# Altium footprint library opto-honeywell.PCBLIB: 39 footprints (part 2 of 3)
Each footprint in its own frame and in the unit in brackets; x right, y up, seen from the top. Pads: shape width x height; smd on the part's side, far side on the other; paste and mask are expansions set on the pad; w line width, h text height; cw(c..) or ccw(c..) is an arc to the next point about the centre after c.
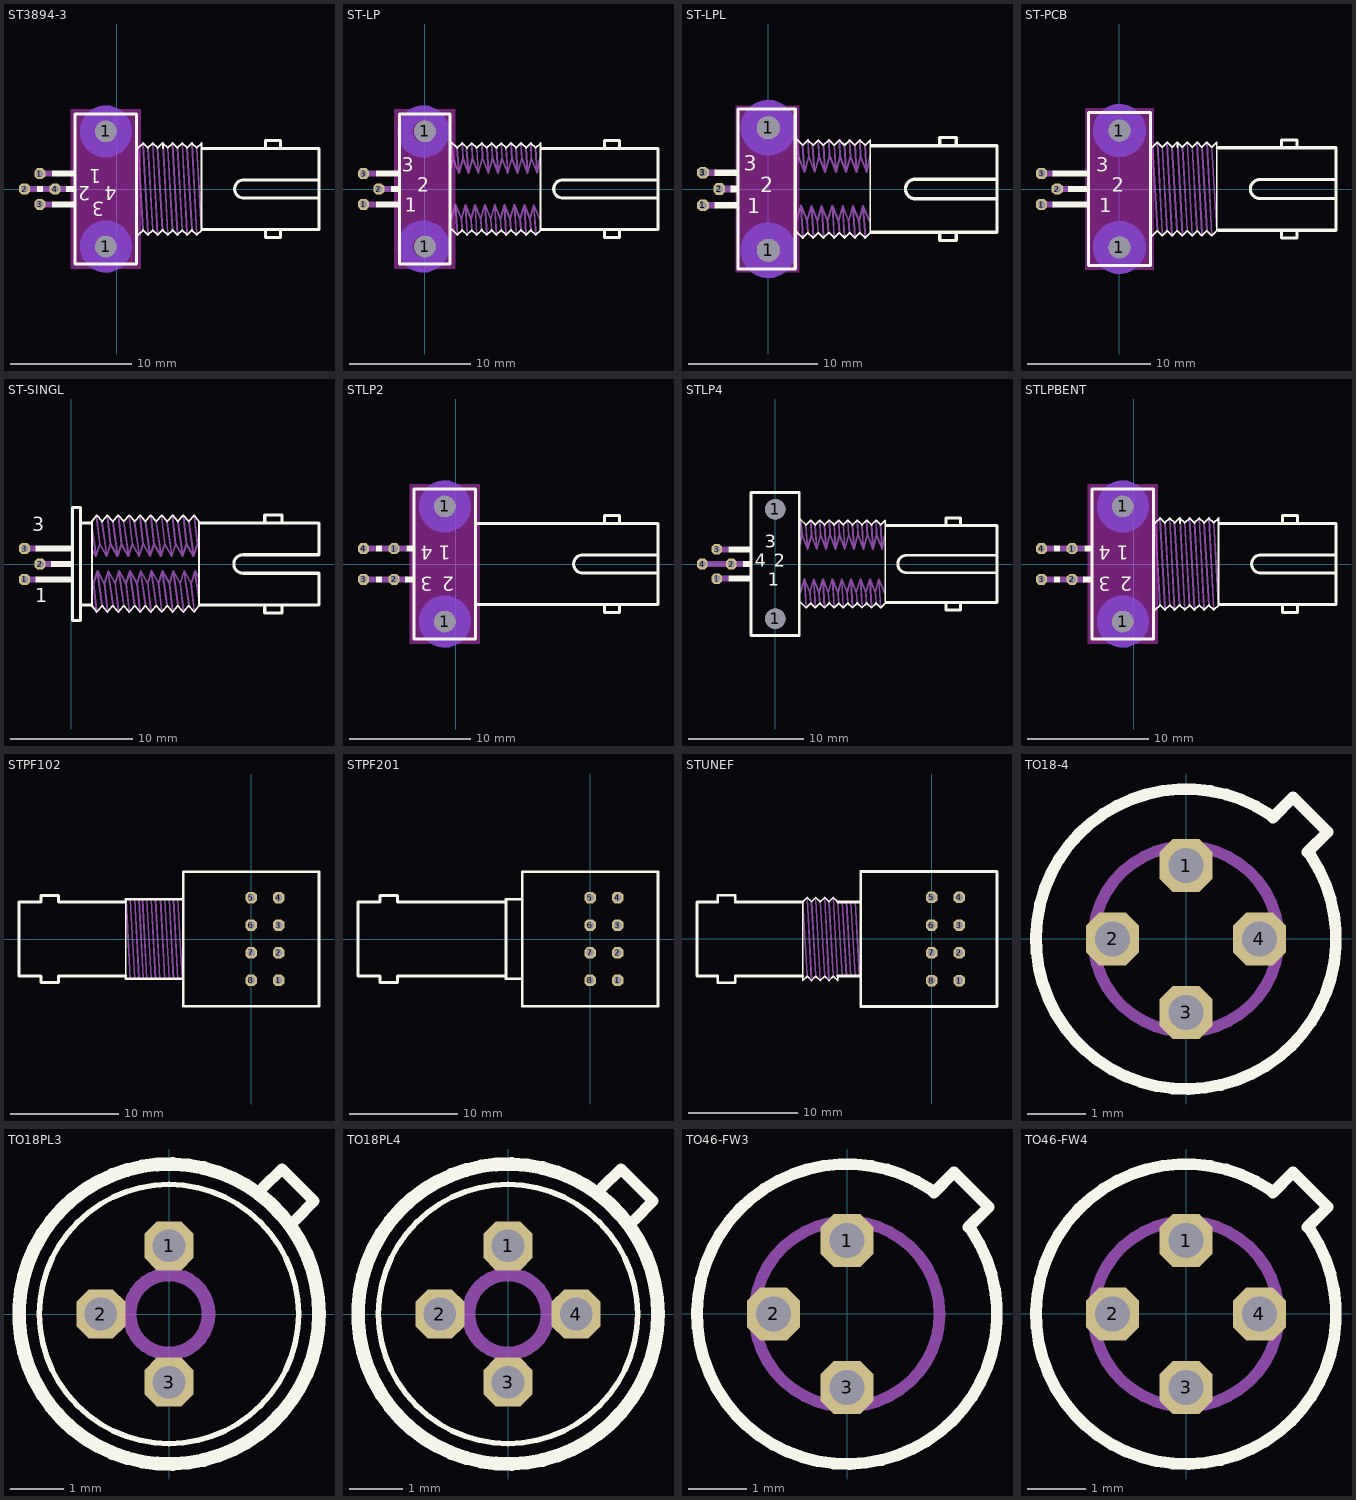
[diagram p1: the footprints below, top view; thin cyan lines are the x and y axes]

## ST3894-3 [mil]
pads (6):
  oct 36x36 hole 24: 1(-250,50) 2(-300,0) 3(-250,-50) 4(-200,0)
  round 70 hole 70: 1(-35,-187.5) 1(-35,187.5)
Top Layer keep-out:
  rectangle: -150,-260 80,260
Bottom Layer keep-out:
  circle w50: c-35,187.5 r60
  circle w50: c-35,-187.5 r60
Top Overlay:
  rectangle: -165,-10 -135,10
  rectangle: -260,-10 -240,10
  rectangle: -210,-60 -135,-40
  rectangle: -210,40 -135,60
  lines w6: 70.83,-149.61 86.57,-133.86 102.32,-149.61 118.07,-133.86 133.82,-149.61 149.57,-133.86 ; 70.83,133.86 86.57,149.61 102.32,133.86 118.07,149.61 133.82,133.86 149.57,149.61 ; 151.06,-133.86 166.85,-149.61 182.6,-133.86 198.35,-149.61 214.06,-133.86 229.8,-149.61 245.59,-133.86 261.34,-149.61 277.09,-133.86 ; 151.06,133.86 151.06,149.61 166.85,133.86 182.6,149.61 198.35,133.86 214.06,149.61 229.8,133.86 245.59,149.61 261.34,133.86 277.09,149.61 277.09,-131.14
  lines w10: 282.5,-132.5 660,-132.5 660,-30 ; 282.5,132.5 660,132.5 660,30 ; 485,-135 485,-157.5 535,-157.5 535,-135 ; 485,135 485,157.5 535,157.5 535,135 ; 660,-30 660,30 ; 660,-30 415,-30 cw(c415,0) 415,30 660,30 ; -135,-245 -135,245 65,245 65,-245 -135,-245
  text "1" at -50,80 h77.5
  text "3" at -40,-25 h77.5
  text "2" at -85,25 h77.5
  text "4" at 0,25 h77.5
Mechanical 16:
  rectangle: -255,40 -210,60
  rectangle: -305,-10 -260,10
  rectangle: -205,-10 -160,10
  rectangle: -240,-10 -195,10
  rectangle: -255,-60 -210,-40
  lines w6: 70.83,133.86 86.57,-133.86 ; 86.57,149.61 102.32,-144.21 ; 102.32,133.86 118.07,-133.86 ; 118.07,149.61 133.82,-149.61 ; 133.82,133.86 149.57,-133.86 ; 151.06,149.61 166.85,-149.61 ; 166.85,133.86 182.6,-133.86 ; 182.6,149.61 198.35,-149.61 ; 198.35,133.86 214.06,-133.86 ; 214.06,149.61 229.8,-144.21 ; 229.8,133.86 245.59,-133.86 ; 245.59,149.61 261.34,-149.61 ; 261.34,133.86 277.09,-133.86
Via Holes:
  rectangle: -150,-260 80,260

## ST-LP [mil]
pads (5):
  oct 36x36 hole 24: 1(-200,-50) 2(-150,0) 3(-200,50)
  round 70 hole 70: 1(0,-187.5) 1(0,187.5)
Top Layer keep-out:
  rectangle: -100,-260 100,260
Bottom Layer keep-out:
  circle w50: c-5,-187.5 r60
  circle w50: c-5,187.5 r60
Top Overlay:
  rectangle: -160,40 -85,60
  rectangle: -110,-10 -85,10
  rectangle: -160,-60 -85,-40
  lines w6: 86.57,152.6 105.32,133.86 ; 87.56,-131.85 105.32,-149.61 ; 105.83,-149.61 121.57,-133.86 137.32,-149.61 153.07,-133.86 168.82,-149.61 184.57,-133.86 ; 105.83,133.86 121.57,149.61 137.32,133.86 153.07,149.61 168.82,133.86 185.59,149.61 ; 186.06,-133.86 201.85,-149.61 217.6,-133.86 233.35,-149.61 249.06,-133.86 264.8,-149.61 280.59,-133.86 ; 186.06,149.61 201.85,133.86 217.6,149.61 233.35,133.86 249.06,149.61 264.8,133.86 280.59,149.61 ; 281.57,-133.86 297.32,-149.61 313.07,-133.86 ; 281.57,149.61 297.32,133.86 313.07,149.61 ; 314.06,-133.86 329.8,-149.61 345.59,-133.86 361.34,-149.61 377.09,-133.86 ; 314.06,149.61 329.8,133.86 345.59,149.61 361.34,133.86 377.09,149.61 377.09,-131.14
  lines w10: 380,-132.5 760,-132.5 760,-30 ; 380,132.5 760,132.5 760,30 ; 585,-135 585,-157.5 635,-157.5 635,-135 ; 585,135 585,157.5 635,157.5 635,135 ; 760,-30 760,30 ; 760,-30 450,-30 cw(c450,0) 450,30 760,30 ; -82.5,-245 -82.5,245 82.5,245 82.5,-245 -82.5,-245
  text "1" at -65,-90 h77.5
  text "3" at -75,40 h77.5
  text "2" at -25,-25 h77.5
Mechanical 16:
  rectangle: -205,40 -160,60
  rectangle: -155,-10 -110,10
  rectangle: -205,-60 -160,-40
  lines w6: 85,70 92,100 86.57,152.6 ; 86.85,-96.65 100.08,-50.91 118.31,-96.65 ; 92.09,100.12 110.32,52.36 ; 100,-54 106,-149 ; 105,134 111,54 ; 110.83,51.38 124.06,99.09 142.32,51.38 155.59,99.09 173.82,51.38 187.09,99.09 ; 118.82,-97.64 132.09,-51.89 150.32,-97.64 163.58,-51.89 181.81,-97.64 195.08,-51.89 ; 119,-96 122,-134 ; 122,149 124,98 ; 132,-56 138,-148 ; 136,133 142,53 ; 150,-95 153,-134 ; 153,148 155,97 ; 164,-55 169,-149 ; 169,134 174,53 ; 182,-95 185,-134 ; 186,149 188,97 ; 188.58,99.09 206.85,51.38 220.08,99.09 238.35,51.38 251.57,99.09 269.8,51.38 283.07,99.09 ; 196,-54 202,-148 ; 196.57,-51.89 214.84,-97.64 228.07,-51.89 246.34,-97.64 259.57,-51.89 277.83,-97.64 291.06,-51.89 ; 202,134 207,53 ; 215,-96 218,-134 ; 218,148 220,96 ; 228,-55 233,-149 ; 233,134 238,55 ; 246,-94 249,-134 ; 249,149 252,97 ; 260,-57 265,-148 ; 265,134 270,54 ; 278,-95 281,-134 ; 281,149 284,97 ; 284.06,99.09 302.32,51.38 315.59,99.09 ; 292,-54 298,-148 ; 292.09,-51.89 310.32,-97.64 324.57,-51.89 342.83,-97.64 355.08,-51.89 374.33,-97.64 ; 297,134 302,55 ; 310,-94 313,-134 ; 313,149 316,97 ; 316.57,99.09 334.8,51.38 347.09,99.09 366.34,51.38 375.59,99.09 ; 325,-56 330,-148 ; 330,134 335,54 ; 343,-95 346,-134 ; 346,148 347,96 ; 355,-54 362,-149 ; 361,134 366,54
Via Holes:
  rectangle: -100,-260 100,260

## ST-LPL [mil]
pads (5):
  oct 36x36 hole 24: 1(-200,-50) 2(-150,0) 3(-200,50)
  round 70 hole 70: 1(0,-187.5) 1(0,187.5)
Top Layer keep-out:
  rectangle: -100,-255 95,255
Bottom Layer keep-out:
  circle w50: c0,-187.5 r60
  circle w50: c0,187.5 r60
Top Overlay:
  rectangle: -165,40 -90,60
  rectangle: -115,-10 -90,10
  rectangle: -165,-60 -90,-40
  lines w6: 86.57,152.6 105.32,133.86 ; 87.56,-131.85 105.32,-149.61 ; 105.83,-149.61 121.57,-133.86 137.32,-149.61 153.07,-133.86 168.82,-149.61 184.57,-133.86 ; 105.83,133.86 121.57,149.61 137.32,133.86 153.07,149.61 168.82,133.86 185.59,149.61 ; 186.06,-133.86 201.85,-149.61 217.6,-133.86 233.35,-149.61 249.06,-133.86 264.8,-149.61 280.59,-133.86 296.34,-149.61 312.09,-133.86 ; 186.06,149.61 201.85,133.86 217.6,149.61 233.35,133.86 249.06,149.61 264.8,133.86 280.59,149.61 296.34,133.86 312.09,149.61 312.09,-131.14
  lines w10: 315,-132.5 700,-132.5 700,-30 ; 315,132.5 700,132.5 700,30 ; 525,-135 525,-157.5 575,-157.5 575,-135 ; 525,135 525,157.5 575,157.5 575,135 ; 700,-30 700,30 ; 700,-30 450,-30 cw(c450,0) 450,30 700,30 ; -92.5,-245 -92.5,245 82.5,245 82.5,-245 -92.5,-245
  text "1" at -65,-90 h77.5
  text "3" at -75,40 h77.5
  text "2" at -25,-25 h77.5
Mechanical 16:
  rectangle: -205,40 -160,60
  rectangle: -155,-10 -110,10
  rectangle: -205,-60 -160,-40
  lines w6: 85,70 92,100 86.57,152.6 ; 86.85,-96.65 100.08,-50.91 118.31,-96.65 ; 92.09,100.12 110.32,52.36 ; 100,-54 106,-149 ; 105,134 111,54 ; 110.83,51.38 124.06,99.09 142.32,51.38 155.59,99.09 173.82,51.38 187.09,99.09 ; 118.82,-97.64 132.09,-51.89 150.32,-97.64 163.58,-51.89 181.81,-97.64 195.08,-51.89 ; 119,-96 122,-134 ; 122,149 124,98 ; 132,-56 138,-148 ; 136,133 142,53 ; 150,-95 153,-134 ; 153,148 155,97 ; 164,-55 169,-149 ; 169,134 174,53 ; 182,-95 185,-134 ; 186,149 188,97 ; 188.58,99.09 206.85,51.38 220.08,99.09 238.35,51.38 251.57,99.09 269.8,51.38 282.09,99.09 301.34,51.38 310.59,99.09 ; 196,-54 202,-148 ; 196.57,-51.89 214.84,-97.64 228.07,-51.89 246.34,-97.64 259.57,-51.89 277.83,-97.64 290.08,-51.89 309.33,-97.64 ; 202,134 207,53 ; 215,-96 218,-134 ; 218,148 220,96 ; 228,-55 233,-149 ; 233,134 238,55 ; 246,-94 249,-134 ; 249,149 252,97 ; 260,-56 265,-148 ; 265,134 270,54 ; 278,-95 281,-134 ; 281,148 282,96 ; 290,-54 297,-149 ; 296,134 301,54
Via Holes:
  rectangle: -100,-255 95,255

## ST-PCB [mil]
pads (5):
  oct 36x36 hole 24: 1(-250,-50) 2(-200,0) 3(-250,50)
  round 70 hole 70: 1(0,-187.5) 1(0,187.5)
Top Layer keep-out:
  rectangle: -110,-260 110,260
Bottom Layer keep-out:
  circle w50: c0,187.5 r60
  circle w50: c0,-187.5 r60
Top Overlay:
  rectangle: -165,-10 -100,10
  rectangle: -215,-60 -100,-40
  rectangle: -215,40 -100,60
  lines w6: 105.83,-149.61 121.57,-133.86 137.32,-149.61 153.07,-133.86 168.82,-149.61 184.57,-133.86 ; 105.83,133.86 121.57,149.61 137.32,133.86 153.07,149.61 168.82,133.86 184.57,149.61 ; 186.06,-133.86 201.85,-149.61 217.6,-133.86 233.35,-149.61 249.06,-133.86 264.8,-149.61 280.59,-133.86 296.34,-149.61 312.09,-133.86 ; 186.06,133.86 186.06,149.61 201.85,133.86 217.6,149.61 233.35,133.86 249.06,149.61 264.8,133.86 280.59,149.61 296.34,133.86 312.09,149.61 312.09,-131.14
  lines w10: 317.5,-132.5 695,-132.5 695,-30 ; 317.5,132.5 695,132.5 695,30 ; 520,-135 520,-157.5 570,-157.5 570,-135 ; 520,135 520,157.5 570,157.5 570,135 ; 695,-30 695,30 ; 695,-30 450,-30 cw(c450,0) 450,30 695,30 ; -100,-245 -100,245 100,245 100,-245 -100,-245
  text "1" at -65,-90 h77.5
  text "3" at -75,40 h77.5
  text "2" at -25,-25 h77.5
Mechanical 16:
  rectangle: -255,40 -210,60
  rectangle: -205,-10 -160,10
  rectangle: -255,-60 -210,-40
  lines w6: 105.83,133.86 121.57,-133.86 ; 121.57,149.61 137.32,-144.21 ; 137.32,133.86 153.07,-133.86 ; 153.07,149.61 168.82,-149.61 ; 168.82,133.86 184.57,-133.86 ; 186.06,149.61 201.85,-149.61 ; 201.85,133.86 217.6,-133.86 ; 217.6,149.61 233.35,-149.61 ; 233.35,133.86 249.06,-133.86 ; 249.06,149.61 264.8,-144.21 ; 264.8,133.86 280.59,-133.86 ; 280.59,149.61 296.34,-149.61 ; 296.34,133.86 312.09,-133.86
Via Holes:
  rectangle: -110,-260 110,260

## ST-SINGL [mil]
pads (3):
  oct 36x36 hole 24: 1(-150,-50) 2(-100,0) 3(-150,50)
Top Overlay:
  rectangle: -65,-10 0,10
  rectangle: -115,-60 0,-40
  rectangle: -115,40 0,60
  lines w6: 67.5,-137.5 67.5,-135 ; 67.5,135 67.5,-135 ; 67.5,137.5 82.5,157.5 100,137.5 117.5,157.5 135,137.5 152.5,157.5 170,137.5 187.5,157.5 205,137.5 222.5,157.5 240,137.5 257.5,157.5 275,137.5 292.5,157.5 310,137.5 327.5,157.5 345,137.5 362.5,157.5 380,137.5 397.5,157.5 412.5,137.5 412.5,-135 397.5,-155 380,-135 362.5,-155 345,-135 327.5,-155 310,-135 292.5,-155 275,-135 257.5,-155 240,-135 222.5,-155 205,-135 187.5,-155 170,-135 152.5,-155 135,-135 117.5,-155 100,-135 82.5,-155 67.5,-135
  lines w10: 35,-132.5 62.5,-132.5 ; 35,132.5 62.5,132.5 ; 417.5,-132.5 800,-132.5 800,-30 555,-30 cw(c555,0) 555,30 800,30 800,132.5 417.5,132.5 ; 625,-140 625,-157.5 680,-157.5 680,-137.5 ; 625,135 625,157.5 680,157.5 680,137.5 ; 5,-182.5 5,182.5 30,182.5 30,-182.5 5,-182.5
  text "1" at -115,-140 h77.5
  text "3" at -125,90 h77.5
Mechanical 16:
  rectangle: -155,40 -110,60
  rectangle: -105,-10 -60,10
  rectangle: -155,-60 -110,-40
  lines w6: 67.5,115 80,30 ; 70,42.5 80,25 92.5,65 ; 82.5,-150 72.5,-62.5 85,-22.5 107.5,-62.5 ; 82.5,152.5 92.5,65 ; 85,-27.5 100,-132.5 ; 100,135 115,30 ; 117.5,-150 107.5,-62.5 ; 117.5,152.5 127.5,65 ; 120,-27.5 135,-132.5 ; 135,135 150,30 ; 152.5,-150 142.5,-62.5 ; 152.5,152.5 162.5,65 ; 155,-27.5 170,-132.5 ; 170,135 185,30 ; 187.5,-150 177.5,-62.5 ; 187.5,152.5 197.5,65 ; 190,-27.5 205,-132.5 ; 205,135 220,30 ; 222.5,-150 212.5,-62.5 ; 222.5,152.5 232.5,65 ; 225,-27.5 240,-132.5 ; 240,135 255,30 ; 257.5,-150 247.5,-62.5 ; 257.5,152.5 267.5,65 ; 260,-27.5 275,-132.5 ; 275,135 290,30 ; 292.5,-150 282.5,-62.5 ; 292.5,152.5 302.5,65 ; 295,-27.5 310,-132.5 ; 310,135 325,30 ; 327.5,-150 317.5,-62.5 ; 327.5,152.5 337.5,65 ; 330,-27.5 345,-132.5 ; 345,135 360,30 ; 362.5,-150 352.5,-62.5 ; 362.5,152.5 372.5,65 ; 365,-27.5 380,-132.5 ; 380,135 395,30 ; 397.5,-150 387.5,-62.5 ; 397.5,152.5 407.5,65 ; 400,-27.5 412.5,-112.5 ; 410,-40 400,-22.5 387.5,-62.5 ; 412.5,55 407.5,65 ; 92.5,65 115,25 127.5,65 ; 107.5,-62.5 120,-22.5 142.5,-62.5 ; 127.5,65 150,25 162.5,65 ; 142.5,-62.5 155,-22.5 177.5,-62.5 ; 162.5,65 185,25 197.5,65 ; 177.5,-62.5 190,-22.5 212.5,-62.5 ; 197.5,65 220,25 232.5,65 ; 212.5,-62.5 225,-22.5 247.5,-62.5 ; 232.5,65 255,25 267.5,65 ; 247.5,-62.5 260,-22.5 282.5,-62.5 ; 267.5,65 290,25 302.5,65 ; 282.5,-62.5 295,-22.5 317.5,-62.5 ; 302.5,65 325,25 337.5,65 ; 317.5,-62.5 330,-22.5 352.5,-62.5 ; 337.5,65 360,25 372.5,65 ; 352.5,-62.5 365,-22.5 387.5,-62.5 ; 372.5,65 395,25 407.5,65

## STLP2 [mil]
pads (6):
  oct 36x36 hole 24: 1(-200,50) 2(-200,-50) 3(-300,-50) 4(-300,50)
  round 70 hole 70: 1(-35,-187.5) 1(-35,187.5)
Top Layer keep-out:
  rectangle: -150,-260 80,260
Bottom Layer keep-out:
  circle w50: c-35,187.5 r60
  circle w50: c-35,-187.5 r60
Top Overlay:
  rectangle: -165,-60 -135,-40
  rectangle: -160,40 -135,60
  rectangle: -260,-60 -240,-40
  rectangle: -260,40 -240,60
  lines w10: 67.5,-132.5 660,-132.5 660,-30 ; 67.5,132.5 660,132.5 660,30 ; 485,-135 485,-157.5 535,-157.5 535,-135 ; 485,135 485,157.5 535,157.5 535,135 ; 660,-30 660,30 ; 660,-30 415,-30 cw(c415,0) 415,30 660,30 ; -135,-245 -135,245 65,245 65,-245 -135,-245
  text "1" at -15,75 h77.5
  text "3" at -75,-25 h77.5
  text "2" at -5,-25 h77.5
  text "4" at -75,75 h77.5
Mechanical 16:
  rectangle: -205,-60 -160,-40
  rectangle: -305,-60 -260,-40
  rectangle: -205,40 -160,60
  rectangle: -240,-60 -195,-40
  rectangle: -240,40 -195,60
  rectangle: -305,40 -260,60
Via Holes:
  rectangle: -150,-260 80,260

## STLP4 [mil]
pads (6):
  oct 36x36 hole 24: 1(-200,-50) 2(-150,0) 3(-200,50) 4(-250,0)
  round 70 hole 70: 1(0,-187.5) 1(0,187.5)
Top Overlay:
  rectangle: -160,40 -85,60
  rectangle: -110,-10 -85,10
  rectangle: -160,-60 -85,-40
  lines w6: 86.57,152.6 105.32,133.86 ; 87.56,-131.85 105.32,-149.61 ; 105.83,-149.61 121.57,-133.86 137.32,-149.61 153.07,-133.86 168.82,-149.61 184.57,-133.86 ; 105.83,133.86 121.57,149.61 137.32,133.86 153.07,149.61 168.82,133.86 185.59,149.61 ; 186.06,-133.86 201.85,-149.61 217.6,-133.86 233.35,-149.61 249.06,-133.86 264.8,-149.61 280.59,-133.86 ; 186.06,149.61 201.85,133.86 217.6,149.61 233.35,133.86 249.06,149.61 264.8,133.86 280.59,149.61 ; 281.57,-133.86 297.32,-149.61 313.07,-133.86 ; 281.57,149.61 297.32,133.86 313.07,149.61 ; 314.06,-133.86 329.8,-149.61 345.59,-133.86 361.34,-149.61 377.09,-133.86 ; 314.06,149.61 329.8,133.86 345.59,149.61 361.34,133.86 377.09,149.61 377.09,-131.14
  lines w10: 380,-132.5 760,-132.5 760,-30 ; 380,132.5 760,132.5 760,30 ; 585,-135 585,-157.5 635,-157.5 635,-135 ; 585,135 585,157.5 635,157.5 635,135 ; 760,-30 760,30 ; 760,-30 450,-30 cw(c450,0) 450,30 760,30 ; -82.5,-245 -82.5,245 82.5,245 82.5,-245 -82.5,-245
  text "1" at -25,-90 h77.5
  text "3" at -35,40 h77.5
  text "2" at -5,-25 h77.5
  text "4" at -70,-25 h77.5
Mechanical 16:
  rectangle: -205,40 -160,60
  rectangle: -155,-10 -110,10
  rectangle: -205,-60 -160,-40
  rectangle: -255,-10 -150,10
  lines w6: 85,70 92,100 86.57,152.6 ; 86.85,-96.65 100.08,-50.91 118.31,-96.65 ; 92.09,100.12 110.32,52.36 ; 100,-54 106,-149 ; 105,134 111,54 ; 110.83,51.38 124.06,99.09 142.32,51.38 155.59,99.09 173.82,51.38 187.09,99.09 ; 118.82,-97.64 132.09,-51.89 150.32,-97.64 163.58,-51.89 181.81,-97.64 195.08,-51.89 ; 119,-96 122,-134 ; 122,149 124,98 ; 132,-56 138,-148 ; 136,133 142,53 ; 150,-95 153,-134 ; 153,148 155,97 ; 164,-55 169,-149 ; 169,134 174,53 ; 182,-95 185,-134 ; 186,149 188,97 ; 188.58,99.09 206.85,51.38 220.08,99.09 238.35,51.38 251.57,99.09 269.8,51.38 283.07,99.09 ; 196,-54 202,-148 ; 196.57,-51.89 214.84,-97.64 228.07,-51.89 246.34,-97.64 259.57,-51.89 277.83,-97.64 291.06,-51.89 ; 202,134 207,53 ; 215,-96 218,-134 ; 218,148 220,96 ; 228,-55 233,-149 ; 233,134 238,55 ; 246,-94 249,-134 ; 249,149 252,97 ; 260,-57 265,-148 ; 265,134 270,54 ; 278,-95 281,-134 ; 281,149 284,97 ; 284.06,99.09 302.32,51.38 315.59,99.09 ; 292,-54 298,-148 ; 292.09,-51.89 310.32,-97.64 324.57,-51.89 342.83,-97.64 355.08,-51.89 374.33,-97.64 ; 297,134 302,55 ; 310,-94 313,-134 ; 313,149 316,97 ; 316.57,99.09 334.8,51.38 347.09,99.09 366.34,51.38 375.59,99.09 ; 325,-56 330,-148 ; 330,134 335,54 ; 343,-95 346,-134 ; 346,148 347,96 ; 355,-54 362,-149 ; 361,134 366,54

## STLPBENT [mil]
pads (6):
  oct 36x36 hole 24: 1(-200,50) 2(-200,-50) 3(-300,-50) 4(-300,50)
  round 70 hole 70: 1(-35,-187.5) 1(-35,187.5)
Top Layer keep-out:
  rectangle: -150,-260 80,260
Bottom Layer keep-out:
  circle w50: c-35,187.5 r60
  circle w50: c-35,-187.5 r60
Top Overlay:
  rectangle: -165,-60 -135,-40
  rectangle: -160,40 -135,60
  rectangle: -260,-60 -240,-40
  rectangle: -260,40 -240,60
  lines w6: 70.83,-149.61 86.57,-133.86 102.32,-149.61 118.07,-133.86 133.82,-149.61 149.57,-133.86 ; 70.83,133.86 86.57,149.61 102.32,133.86 118.07,149.61 133.82,133.86 149.57,149.61 ; 151.06,-133.86 166.85,-149.61 182.6,-133.86 198.35,-149.61 214.06,-133.86 229.8,-149.61 245.59,-133.86 261.34,-149.61 277.09,-133.86 ; 151.06,133.86 151.06,149.61 166.85,133.86 182.6,149.61 198.35,133.86 214.06,149.61 229.8,133.86 245.59,149.61 261.34,133.86 277.09,149.61 277.09,-131.14
  lines w10: 282.5,-132.5 660,-132.5 660,-30 ; 282.5,132.5 660,132.5 660,30 ; 485,-135 485,-157.5 535,-157.5 535,-135 ; 485,135 485,157.5 535,157.5 535,135 ; 660,-30 660,30 ; 660,-30 415,-30 cw(c415,0) 415,30 660,30 ; -135,-245 -135,245 65,245 65,-245 -135,-245
  text "1" at -15,75 h77.5
  text "3" at -75,-25 h77.5
  text "2" at -5,-25 h77.5
  text "4" at -75,75 h77.5
Mechanical 16:
  rectangle: -305,40 -260,60
  rectangle: -205,-60 -160,-40
  rectangle: -305,-60 -260,-40
  rectangle: -205,40 -160,60
  rectangle: -240,-60 -195,-40
  rectangle: -240,40 -195,60
  lines w6: 70.83,133.86 86.57,-133.86 ; 86.57,149.61 102.32,-144.21 ; 102.32,133.86 118.07,-133.86 ; 118.07,149.61 133.82,-149.61 ; 133.82,133.86 149.57,-133.86 ; 151.06,149.61 166.85,-149.61 ; 166.85,133.86 182.6,-133.86 ; 182.6,149.61 198.35,-149.61 ; 198.35,133.86 214.06,-133.86 ; 214.06,149.61 229.8,-144.21 ; 229.8,133.86 245.59,-133.86 ; 245.59,149.61 261.34,-149.61 ; 261.34,133.86 277.09,-133.86
Via Holes:
  rectangle: -150,-260 80,260

## STPF102 [mil]
pads (8):
  oct 41.34x41.34 hole 27.56: 1(100,-150) 2(100,-50) 3(100,50) 4(100,150) 5(0,150) 6(0,50) 7(0,-50) 8(0,-150)
Top Overlay:
  lines w6: -454.57,-133.86 -454.57,133.86
  lines w10: -454.57,-143.86 -454.57,-136.14 ; -454.57,-133.86 -698.66,-133.86 -698.66,-157.48 -761.65,-157.48 -761.65,-133.86 -841.46,-133.86 -841.46,133.86 -761.65,133.86 -761.65,157.48 -698.66,157.48 -698.66,133.86 -454.57,133.86 ; -454.57,136.14 -454.57,143.86 ; -453.58,-143.86 -390.59,-143.86 ; -453.58,143.86 -390.59,143.86 ; -393.58,-143.86 -390.59,-143.86 ; -393.58,143.86 -390.59,143.86 ; -330.59,-143.86 -390.59,-143.86 ; -330.59,143.86 -390.59,143.86 ; -328.58,-143.86 -245.91,-143.86 ; -328.58,143.86 -245.91,143.86 ; -245.91,-143.86 -245.91,-244.09 246.22,-244.09 246.22,244.09 -245.91,244.09 -245.91,143.86 ; -245.91,-143.86 -245.91,143.86
Mechanical 16:
  lines w6: -453.58,143.86 -437.83,-143.86 ; -437.83,143.86 -422.09,-143.86 ; -422.09,143.86 -406.34,-143.86 ; -406.34,143.86 -390.59,-143.86 ; -393.58,143.86 -377.83,-143.86 ; -377.83,143.86 -362.09,-143.86 ; -362.09,143.86 -346.34,-143.86 ; -346.34,143.86 -330.59,-143.86 ; -328.58,143.86 -312.83,-143.86 ; -312.83,143.86 -297.09,-143.86 ; -297.09,143.86 -281.34,-143.86 ; -281.34,143.86 -265.59,-143.86 ; -265.59,143.86 -249.84,-143.86

## STPF201 [mil]
pads (8):
  oct 41.34x41.34 hole 27.56: 1(100,-150) 2(100,-50) 3(100,50) 4(100,150) 5(0,150) 6(0,50) 7(0,-50) 8(0,-150)
Top Overlay:
  lines w10: -304.57,-143.86 -304.57,-136.14 ; -304.57,136.14 -304.57,143.86 ; -303.58,-143.86 -247.83,-143.86 ; -303.58,143.86 -247.83,143.86 ; -841.46,-133.86 -761.65,-133.86 -761.65,-157.48 -698.66,-157.48 -698.66,-133.86 -304.57,-133.86 -304.57,133.86 -698.66,133.86 -698.66,157.48 -761.65,157.48 -761.65,133.86 -841.46,133.86 -841.46,-133.86 ; -245.91,-244.09 246.22,-244.09 246.22,244.09 -245.91,244.09 -245.91,-244.09

## STUNEF [mil]
pads (8):
  oct 41.34x41.34 hole 27.56: 1(100,-150) 2(100,-50) 3(100,50) 4(100,150) 5(0,150) 6(0,50) 7(0,-50) 8(0,-150)
Top Overlay:
  lines w6: -338.58,-133.86 -338.58,-149.61 -354.33,-133.86 -370.08,-149.61 -385.83,-133.86 -401.57,-149.61 -417.32,-133.86 -433.07,-149.61 -448.82,-133.86 -464.57,-149.61 -464.57,-133.86 -464.57,133.86 -448.82,149.61 -433.07,133.86 -417.32,149.61 -401.57,133.86 -385.83,149.61 -370.08,133.86 -354.33,149.61 -338.58,133.86
  lines w10: -464.57,-133.86 -708.66,-133.86 -708.66,-157.48 -771.65,-157.48 -771.65,-133.86 -846.46,-133.86 -846.46,133.86 -771.65,133.86 -771.65,157.48 -708.66,157.48 -708.66,133.86 -464.57,133.86 ; -338.58,-133.86 -255.91,-133.86 ; -338.58,133.86 -255.91,133.86 ; -255.91,-133.86 -255.91,-244.09 236.22,-244.09 236.22,244.09 -255.91,244.09 -255.91,133.86 ; -255.91,-133.86 -255.91,133.86
Mechanical 16:
  lines w6: -464.57,133.86 -448.82,-133.86 ; -448.82,149.61 -433.07,-149.61 ; -433.07,133.86 -417.32,-133.86 ; -417.32,141.73 -401.57,-149.61 ; -401.57,133.86 -385.83,-133.86 ; -385.83,149.61 -370.08,-149.61 ; -370.08,133.86 -354.33,-133.86 ; -354.33,149.61 -338.58,-149.61 ; -338.58,133.86 -322.83,-133.86 ; -322.83,133.86 -307.09,-133.86 ; -307.09,133.86 -291.34,-133.86 ; -291.34,133.86 -275.59,-133.86 ; -275.59,133.86 -259.84,-133.86

## TO18-4 [mil]
pads (4):
  oct 36x36 hole 24: 1(0,50) 2(-50,0) 3(0,-50) 4(50,0)
Top Overlay:
  lines w8: 57.09,84.65 ccw(c0,0) 84.65,57.09 ; 59.06,82.68 72.83,96.46 96.46,72.83 82.68,59.06
Mechanical 16:
  circle w8: c0,0 r62.99

## TO18PL3 [mil]
pads (3):
  oct 36x36 hole 24: 1(0,50) 2(-50,0) 3(0,-50)
Top Overlay:
  circle w10: c0,0 r110
  circle w4: c0,0 r95
  lines w8: 69.06,92.68 82.83,106.46 106.46,82.83 92.68,69.06
Mechanical 16:
  circle w10: c0,0 r29

## TO18PL4 [mil]
pads (4):
  oct 36x36 hole 24: 1(0,50) 2(-50,0) 3(0,-50) 4(50,0)
Top Overlay:
  circle w10: c0,0 r110
  circle w4: c0,0 r95
  lines w8: 69.06,92.68 82.83,106.46 106.46,82.83 92.68,69.06
Mechanical 16:
  circle w10: c0,0 r29

## TO46-FW3 [mil]
pads (3):
  oct 36x36 hole 24: 1(0,50) 2(-50,0) 3(0,-50)
Top Overlay:
  lines w8: 57.09,84.65 ccw(c0,0) 84.65,57.09 ; 59.06,82.68 72.83,96.46 96.46,72.83 82.68,59.06
Mechanical 16:
  circle w8: c0,0 r62.99

## TO46-FW4 [mil]
pads (4):
  oct 36x36 hole 24: 1(0,50) 2(-50,0) 3(0,-50) 4(50,0)
Top Overlay:
  lines w8: 57.09,84.65 ccw(c0,0) 84.65,57.09 ; 59.06,82.68 72.83,96.46 96.46,72.83 82.68,59.06
Mechanical 16:
  circle w8: c0,0 r62.99